# Altium schematic symbol library uz_per_wolfspeed_25kw_FM3.SCHLIB: 30 symbols
Pins are listed as number, name and electrical type; pins without a type are passive.

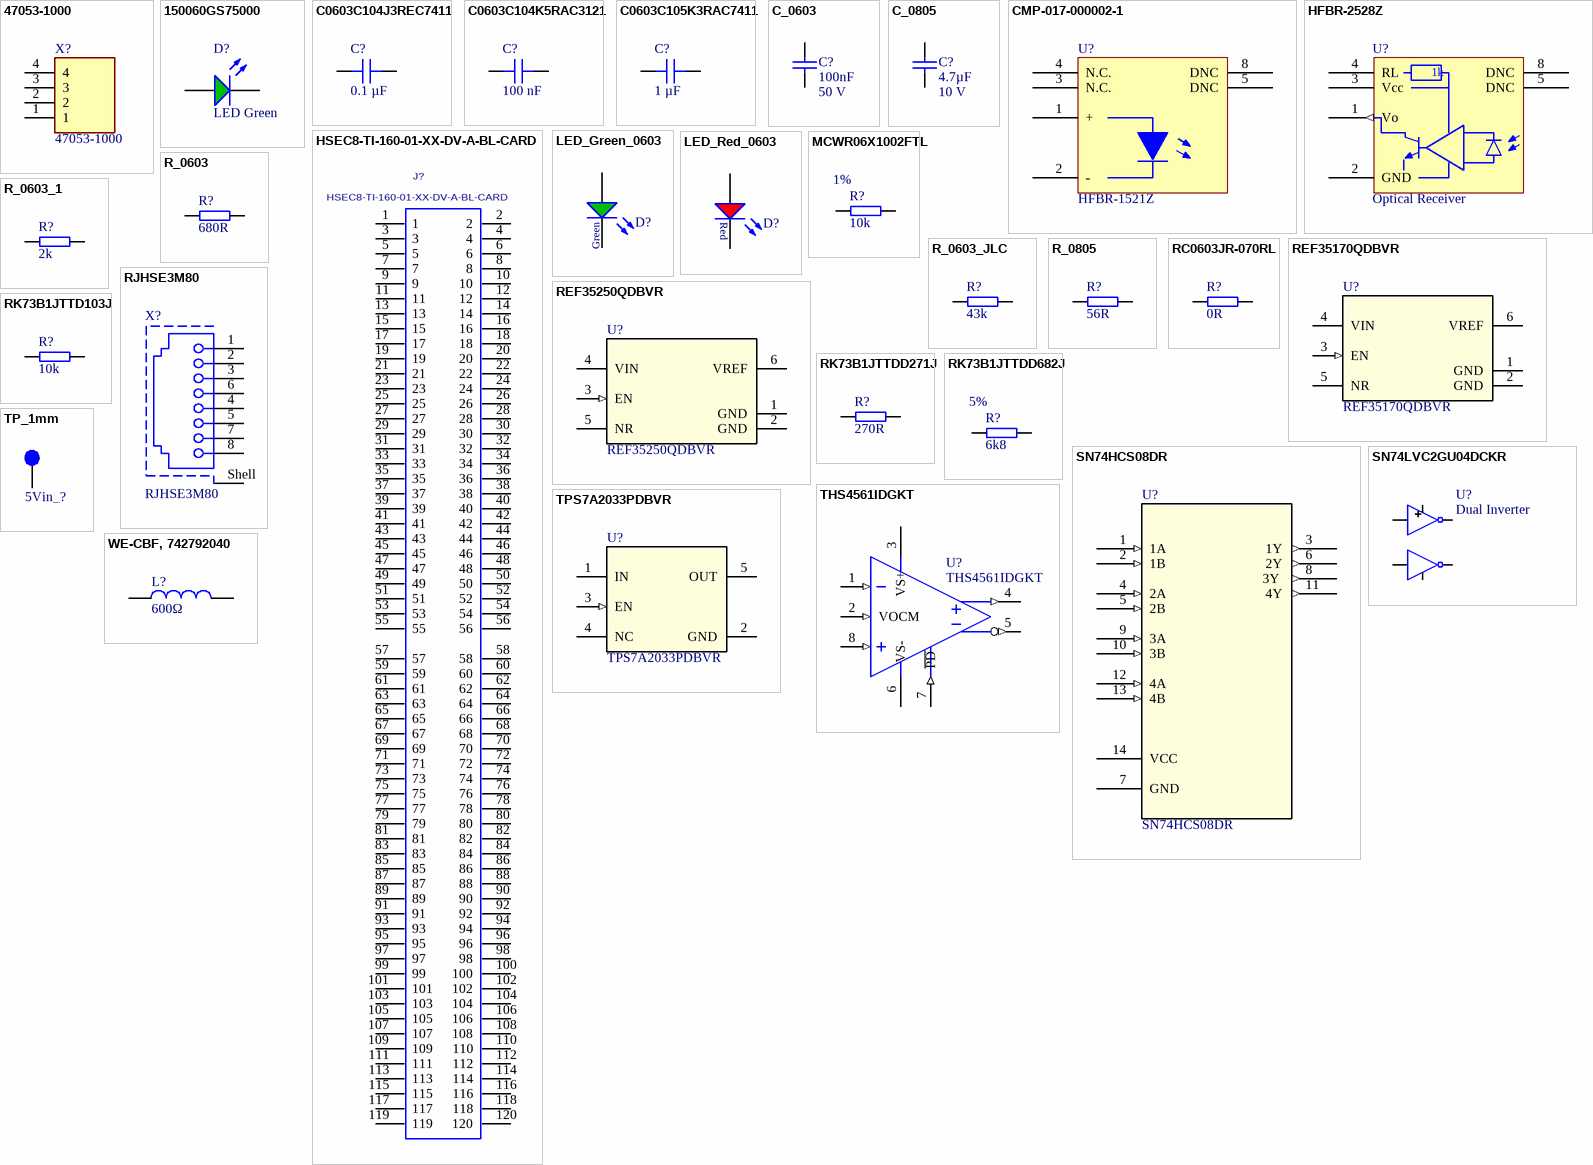
[diagram p0: symbols 47053-1000 to WE-CBF, 742792040]

## 47053-1000
designator X?
Headers & Wire Housings 4P VERT HDR W/FL; Manufacturer_Name: Molex; Created from: VStarost; Number of positions: 4; Datasheet Link: http://www.molex.com/pdm_docs/sd/470531000_sd.pdf; Height: 8mm; Manufacturer_Part_Number: 47053-1000; Mouser Part Number: 538-47053-1000; Mouser Price/Stock: https://www.mouser.co.uk/ProductDetail/Molex/47053-1000?qs=ph4zPCVRuvqoDX7hrEhxNA%3D%3D; Manufacturer Part Number: 47053-1000; PartID: 16; Created On: 27/10/2023 14:20:06; ComponentLink1Description: Datasheet; ComponentLink1URL: https://tools.molex.com/pdm_docs/sd/470531000_sd.pdf; Component Type: Pin Header; Device Package: THT; Last Updated: 04/09/2024 14:33:45; Manufacturer: Molex; Mounting Type: THT; Series: 47053; Supplier 1: Mouser; Supplier Part Number 1: 538-47053-1000; Supplier 2: LCSC; Supplier Part Number 2: C240840; Type: Pin Header; Live Cycle Status: 1; LCSC Part Number: C240840; Stock number: not stored; Number of rows: 1
footprint 470531000
pins: 1, 2, 3, 4

## 150060GS75000
designator D?, comment LED Green
Standard LEDs - SMD WL-SMCW SMDMono TpVw Waterclr 0603 Green; Manufacturer Part Number: 150060GS75000; Manufacturer: Wuerth Elektronik; Created from: AGeiger; Forward Current I_f: 20 mA; Forward Voltage U_f: 3.2 V; Wavelength: 520 nm; Light Intensity: 430 mcd; Nominal Power: 105 mW; PartID: 18; Created On: 08/08/2024 16:40:35; ComponentLink1Description: Datasheet; ComponentLink1URL: https://www.we-online.com/components/products/datasheet/150060GS75000.pdf; Component Type: LED Diode; Device Package: 0603; Last Updated: 08/08/2024 16:41:29; Mounting Type: SMD; Operating Temperature: -40 to +85 °C; Supplier 1: Mouser; Supplier Part Number 1: 710-150060GS75000; Supplier 2: LCSC; Supplier Part Number 2: C72043; Type: Standard; Value: LED Green; Live Cycle Status: 1; Stock number: not stored; Color: green; LCSC Part Number: C72043
footprint WL-SMCW_0603
pins: 1 K, 2 A

## C0603C104J3REC7411
designator C?, comment 0.1 µF
Capacitor 0603, 25 VDC, 0.1 µF, X7R; Manufacturer Part Number: C0603C104J3REC7411; Manufacturer: KEMET; Tolerance: 5 %; Voltage Rating: 25 VDC; Created from: MGremer; PartID: 2; Created On: 20/12/2020 13:54:13; ComponentLink1Description: Datasheet; ComponentLink1URL: https://www.mouser.de/datasheet/2/212/1/KEM_C1090_X7R_ESD-1103328.pdf; Component Type: Capacitor 0603; Device Package: 0603; Last Updated: 20/12/2020 16:43:29; Mounting Type: SMD; Operating Temperature: -55 - 125°C; Series: ESD SMD Auto X7R; Supplier 1: Mouser; Supplier Part Number 1: 80-C0603C104J3RE7411; Type: Capacitor; Value: 0.1 µF; Live Cycle Status: 1; Stock number: Labor SMD Container
footprint C_0603
pins: 1, 2

## C0603C104K5RAC3121
designator C?, comment 100 nF
Capacitor 0603, 50 VDC, 100nF, X7R; Manufacturer Part Number: C0603C104K5RAC3121; Manufacturer: KEMET; Tolerance: 10 %; Voltage Rating: 50 VDC; Created from: DHufnagel; PartID: 99; Created On: 11/08/2022 14:33:29; ComponentLink1Description: Datasheet; ComponentLink1URL: https://www.mouser.de/datasheet/2/212/KEM_C1023_X7R_AUTO_SMD-1093309.pdf; Component Type: Capacitor 0603; Device Package: 0603; Last Updated: 19/08/2022 08:26:58; Mounting Type: SMD; Operating Temperature: -55 - 125°C; Series: X7R; Supplier 1: Mouser; Supplier Part Number 1: 80-C603C104K5RAC3121; Supplier 2: LCSC; Supplier Part Number 2: C696358; Type: Capacitor; Value: 100 nF; Live Cycle Status: 1; LCSC Part Number: C696358; Stock number: not stored
footprint C_0603
pins: 1, 2

## C0603C105K3RAC7411
designator C?, comment 1 µF
Capacitor 0603, 25 VDC, 1 µF, X7R; Manufacturer Part Number: C0603C105K3RAC7411; Manufacturer: KEMET; Tolerance: 10 %; Voltage Rating: 25 VDC; Created from: MGremer; PartID: 4; Created On: 20/12/2020 13:54:13; ComponentLink1Description: Datasheet; ComponentLink1URL: https://www.mouser.de/datasheet/2/212/KEM_C1002_X7R_SMD-1102033.pdf; Component Type: Capacitor 0603; Device Package: 0603; Last Updated: 20/12/2020 16:43:05; Mounting Type: SMD; Operating Temperature: -55 - 125°C; Series: SMD Comm X7R; Supplier 1: Mouser; Supplier Part Number 1: 80-C0603C105K3RLR; Type: Capacitor; Value: 1 µF; Live Cycle Status: 1; Stock number: Labor SMD Container
footprint C_0603
pins: 1, 2

## C_0603
designator C?, comment Rated Voltage: 50 V  (hidden comment: 100nF)
CAP 0603 (1608 Metric) SMD; Tolerance: ±5%; Case-Metric: 1608; Case-EIA: 0603; Max Thickness: 1 mm; Technology: SMT; Created: 2018_09_06_AGeiger; Dielectric: *; Supplier 1: *; Supplier Part Number 1: *; MF: *; MPN: *; Package: 0603; LCSC Part #: C14663; Value: 100nF
footprint C_0603(1608)100_L (Chip Capacitor, Body 1.6x0.8mm, Height 1.0mm, IPC High Density)
pins: 1, 2
1 alternate drawing of the same symbol

## C_0805
designator C?, comment Voltage: 10 V  (hidden comment: 4.7µF)
CAP 0805 (2012 Metric) SMD; MPN: LMF212B7475KGHT; Tolerance: ±10%; Case-Metric: 2012; Dielectric: X7R; MF: Taiyo Yuden; Case-EIA: 0805; Max Thickness: 1 mm; Technology: SMT; Created: 2018_09_06_AGeiger; Supplier 1: Mouser; Supplier Part Number 1: 963-LMF212B7475KGHT; Package: 0805; LCSC Part #: C1779; Value: 4.7µF
footprint CAP_2012X06N (Chip Resistor, 2-Leads, Body 2,00x1,25mm, IPC Medium Density)
pins: 1, 2
1 alternate drawing of the same symbol

## CMP-017-000002-1
designator U?, comment HFBR-1521Z
Fibre Optic Transmitters, Link Horiz 5MBd Tx RoHS; Manufacturer: Broadcom Avago; MF: Broadcom/Avago; Supply Voltage: 5V; Wavelength: 660 nm; Foreward Current: 60 mA; Created: 2019_04_09_Kreppel; Data Rate: 5 MBd; Design Item ID: HFBR-1521Z; MPN: HFBR-1521Z; Source: UZOhm_Optical.SchLib; Manufacturer Part Number: HFBR-1521Z
footprint HFBRx5XX
pins: 1 + "Anode", 2 - "Cathode", 3 N.C. "Not Connected", 4 N.C. "Not Connected", 5 DNC "Do Not Connect", 8 DNC "Do Not Connect"

## HFBR-2528Z
designator U?, comment Optical Receiver
Fibre Optic Receivers, LINK HORIZ 5MBd RC VR RoHS; MPN: HFBR-2521Z; Suppier Part Number 2: 516-2062-ND; MF: Boadcom/Avago; Wavelength: 660 nm; Iout max: 25 mA; Supply Voltage: 5V; Created: 2019_04_09_Kreppel; Data Rate: 5 MBd; Supplier 1: Mouser; Supplier 2: Digi-Key; Supplier Part Number 1: 630-HFBR-2521Z
footprint HFBRx5XX
pins: 1 Vo (out) "Data", 2 GND (power) "Ground", 3 Vcc (power) "Source", 4 RL, 5 DNC "Do Not Connect", 8 DNC "Do Not Connect"
text: 1k

## HSEC8-TI-160-01-XX-DV-A-BL-CARD
designator J?
MATING CARD LAYOUT FOR HSEC8-160-01-XX-DV-A-BL.; MANUFACTURER: SAMTEC; PCB DECAL: HSEC8-160-01-XX-DV-A-BL-CARD; CREATED: April 20, 2018 - Wendy Xin; Design Item ID: HSEC8-160-01-XX-DV-A-BL-CARD; Source: HSEC8-160-01-XX-DV-A-BL-CARD.SCHLIB; Component Type: Standard; Pin Count: 120
footprint HSEC8-TI-160-SAMTEC-Connector
pins: 1, 2, 3, 4, 5, 6, 7, 8, 9, 10, 11, 12, 13, 14, 15, 16, 17, 18, 19, 20, 21, 22, 23, 24, 25, 26, 27, 28, 29, 30, 31, 32, 33, 34, 35, 36, 37, 38, 39, 40, 41, 42, 43, 44, 45, 46, 47, 48, 49, 50, 51, 52, 53, 54, 55, 56, 57, 58, 59, 60, 61, 62, 63, 64, 65, 66, 67, 68, 69, 70, 71, 72, 73, 74, 75, 76, 77, 78, 79, 80, 81, 82, 83, 84, 85, 86, 87, 88, 89, 90, 91, 92, 93, 94, 95, 96, 97, 98, 99, 100, 101, 102, 103, 104, 105, 106, 107, 108, 109, 110, 111, 112, 113, 114, 115, 116, 117, 118, 119, 120

## LED_Green_0603
designator D?, comment 150060GS75000  (value not drawn)
WL-SMCW SMD Mono-color Chip LED Waterclear, size 0603, Green, 3.2 V, 140°; Forward Voltage: 3.2 V; Luminous Intensity: 430 mcd; Peak Wavelength: 515 nm; Dominant Wavelength: 520 nm; MF: Wuerth Elektronik; Published Date: Sep. 2017; ComponentLink1Description: Manufacturer; ComponentLink1URL: http://www.we-online.de; ComponentLink2Description: Datasheet; ComponentLink2URL: http://katalog.we-online.com/led/datasheet/150060GS75000.pdf; MPN: 150060GS75000; Size: 0603; Viewing Angle: 140°; Emitting Color: Green; Value: 150060GS75000; Package: 0603; Created: 2018_09_06_AGeiger; Supplier 1: Farnell; Supplier Part Number 1: 2322070; Supplier 2: Mouser; Supplier Part Number 2: 710-150060GS75000; Supplier 3: Digi-Key; Supplier Part Number 3: 732-4971-1-ND; LCSC Part #: C72043
footprint WL-SMCW_0603
pins: 1 K, 2 A

## LED_Red_0603
designator D?, comment 150060RS75000  (value not drawn)
WL-SMCW SMD Mono-color Chip LED Waterclear, size 0603, Red, 2 V, 140°; Forward Voltage: 2 V; Luminous Intensity: 250 mcd; Peak Wavelength: 630 nm; Dominant Wavelength: 625 nm; MF: Wuerth Elektronik; Published Date: Sep. 2017; ComponentLink1Description: Manufacturer; ComponentLink1URL: http://www.we-online.de; ComponentLink2Description: Datasheet; ComponentLink2URL: http://katalog.we-online.com/led/datasheet/150060RS75000.pdf; MPN: 150060RS75000; Size: 0603; Viewing Angle: 140°; Emitting Color: Red; Value: 150060RS75000; Package: 0603; Created: 2018_09_06_AGeiger; Supplier 1: Farnell; Supplier Part Number 1: 2322071; Supplier 2: Mouser; Supplier Part Number 2: 710-150060RS75000; Supplier 3: Digi-Key; Supplier Part Number 3: 732-4978-1-ND; LCSC Part #: C2286
footprint WL-SMCW_0603
pins: 1 K, 2 A

## MCWR06X1002FTL
designator R?, comment 10k  Tolerance: 1%
SMD resistor 1%; Manufacturer Part Number: MCWR06X1002FTL; Manufacturer: Multicomp PRO; Created from: MGremer; PartID: 176; Created On: 14/12/2020 16:17:14; ComponentLink1Description: Datasheet; ComponentLink1URL: http://www.farnell.com/datasheets/2860681.pdf; Component Type: SMD resistor; Device Package: 0603; Last Updated: 15/02/2023 17:53:17; Mounting Type: SMD; Supplier 1: Farnell; Supplier Part Number 1: 2447230; Type: Resistor; Value: 10k; Live Cycle Status: 1; Stock number: not stored; LCSC Part Number: C269701
footprint RES 0603_1608
footprint RES 0603_1608 NO TO
pins: 1, 2

## R_0603
designator R?, comment 680R
SMD Resistor 0603; MPN: CR0603-FX-3901ELF; Tolerance: 1%; Voltage: 75V; Power: 100 mW; MF: Bourns; Package: 0603; Value: 680R; Created: 2018_09_06_AGeiger; Supplier 1: Mouser; Supplier Part Number 1: 652-CR0603-FX3901ELF; LCSC Part #: C23228
footprint R_0603_N (SMD Resistor, Body 1.6x0.8mm, IPC Medium Density)
pins: 1, 2

## R_0603_1
designator R?, comment 2k
SMD Resistor 0603; MPN: RC0603FR-072KL; Tolerance: 1%; Voltage: 75 V; Power: 100 mW; MF: Yageo; Package: 0603; Value: 2k; Created: 2018_09_06_AGeiger; Supplier 1: Mouser; Supplier Part Number 1: 603-RC0603FR-072KL; LCSC Part #: C22975
footprint R_0603_N (SMD Resistor, Body 1.6x0.8mm, IPC Medium Density)
pins: 1, 2

## R_0603_JLC
designator R?, comment 43k
SMD Resistor 0603; Tolerance: 1%; Voltage: 50V; Power: 100 mW; Package: 0603; Value: 43k; Created: 2018_09_06_AGeiger; Supplier 1: *; Supplier Part Number 1: *; LCSC Part #: C23172
footprint R_0603_N (SMD Resistor, Body 1.6x0.8mm, IPC Medium Density)
pins: 1, 2

## R_0805
designator R?, comment 56R
SMD Resistor 0805; MPN: CR0805-FX-1200ELF; Case_EIA: 0805; MF: Bourns; Voltage: 150 V; Power: 125 mW; Tolerance: 1%; Value: 56R; Supplier 1: Mouser; Supplier Part Number 1: 652-CR0805FX-1200ELF*; LCSC Part #: C17437
footprint RES_2012X06N (Chip Resistor, 2-Leads, Body 2,00x1,25mm, IPC Medium Density)
pins: 1, 2

## RC0603JR-070RL
designator R?, comment 0R
SMD resistor E24 series; Manufacturer Part Number: RC0603JR-070RL; Manufacturer: YAGEO; Tolerance: 5%; Created from: MGremer; PartID: 1; Created On: 14/12/2020 16:17:14; ComponentLink1Description: Datasheet; ComponentLink1URL: https://www.mouser.de/datasheet/2/447/PYu-RC_Group_51_RoHS_L_10-1664068.pdf; Component Type: SMD resistor; Device Package: 0603; Last Updated: 04/03/2021 09:09:42; Mounting Type: SMD; Supplier 1: Mouser; Supplier Part Number 1: 603-RC0603JR-070RL; Supplier 2: LCSC; Supplier Part Number 2: C21189; Type: Resistor; Value: 0R; Live Cycle Status: 1; Stock number: Labor SMD Container; LCSC Part Number: C21189
footprint RES 0603_1608
footprint RES 0603_1608 NO TO
pins: 1, 2

## REF35170QDBVR
designator U?
No Description Available; Mfr_Name: Texas Instruments; TYPE: TYPE; RefDes: RefDes
footprint DBV0006A-IPC_A
pins: 1 GND (power), 2 GND (power), 3 EN (in), 4 VIN (power), 5 NR, 6 VREF

## REF35250QDBVR
designator U?
No Description Available; Mfr_Name: Texas Instruments; TYPE: TYPE; RefDes: RefDes
footprint DBV0006A-IPC_A
pins: 1 GND (power), 2 GND (power), 3 EN (in), 4 VIN (power), 5 NR, 6 VREF

## RJHSE3M80
designator X?
CAT5, RJ45 Connector, 1 port, vertical; Manufacturer: Amphenol; Created from: DHufnagel; Manufacturer Part Number: RJHSE3M80; PartID: 12; Created On: 06/06/2023 05:55:53; ComponentLink1Description: Datasheet; ComponentLink1URL: https://cdn.amphenol-cs.com/media/wysiwyg/files/documentation/datasheet/inputoutput/io-modjack-rjhse.pdf; Component Type: RJ45 Connector; Device Package: RJ45; Last Updated: 06/06/2023 05:55:53; Mounting Type: THT; Series: RJHSE; Supplier 1: Mouser; Supplier Part Number 1: 523-RJHSE3M80; Supplier 2: LCSC; Supplier Part Number 2: C3179193; Type: RJ45 Connector; Live Cycle Status: 1; LCSC Part Number: C3179193; Stock number: not stored
footprint RJHSE3M80
pins: 1, 2, 3, 4, 5, 6, 7, 8, Shell

## RK73B1JTTD103J
designator R?, comment 10k
SMD resistor E24 series; Manufacturer Part Number: RK73B1JTTD103J; Manufacturer: KOA Speer; Tolerance: 5%; Created from: MGremer; PartID: 98; Created On: 14/12/2020 16:17:14; ComponentLink1Description: Datasheet; ComponentLink1URL: https://www.mouser.de/datasheet/2/219/RK73B-1825463.pdf; Component Type: SMD resistor; Device Package: 0603; Last Updated: 27/05/2022 14:04:22; Mounting Type: SMD; Supplier 1: Mouser; Supplier Part Number 1: 660-RK73B1JTTD103J; Type: Resistor; Value: 10k; Live Cycle Status: 1; Stock number: Labor SMD Container; LCSC Part Number: C25804
footprint RES 0603_1608
footprint RES 0603_1608 NO TO
pins: 1, 2

## RK73B1JTTDD271J
designator R?, comment 270R
SMD resistor E24 series; Manufacturer Part Number: RK73B1JTTDD271J; Manufacturer: KOA Speer; Tolerance: 5%; Created from: MGremer; PartID: 60; Created On: 14/12/2020 16:17:14; ComponentLink1Description: Datasheet; ComponentLink1URL: https://www.mouser.de/datasheet/2/219/RK73B-1825463.pdf; Component Type: SMD resistor; Device Package: 0603; Last Updated: 15/02/2023 17:43:45; Mounting Type: SMD; Supplier 1: Mouser; Supplier Part Number 1: 660-RK73B1JTTDD271J; Type: Resistor; Value: 270R; Live Cycle Status: 1; Stock number: Labor SMD Container; LCSC Part Number: C177305
footprint RES 0603_1608
footprint RES 0603_1608 NO TO
pins: 1, 2

## RK73B1JTTDD682J
designator R?, comment 6k8  Tolerance: 5%
SMD resistor E24 series; Manufacturer Part Number: RK73B1JTTDD682J; Manufacturer: KOA Speer; Created from: MGremer; PartID: 94; Created On: 14/12/2020 16:17:14; ComponentLink1Description: Datasheet; ComponentLink1URL: https://www.mouser.de/datasheet/2/219/RK73B-1825463.pdf; Component Type: SMD resistor; Device Package: 0603; Last Updated: 21/02/2024 16:18:01; Mounting Type: SMD; Supplier 1: Mouser; Supplier Part Number 1: 660-RK73B1JTTDD682J; Type: Resistor; Value: 6k8; Live Cycle Status: 1; Stock number: Labor SMD Container; LCSC Part Number: C118365
footprint RES 0603_1608
footprint RES 0603_1608 NO TO
pins: 1, 2

## SN74HCS08DR
designator U?
No Description Available; Mfr_Name: Texas Instruments; RefDes: RefDes; Type: Type
footprint SOIC_S08DR_TEX
pins: 1 1A (in), 2 1B (in), 3 1Y (out), 4 2A (in), 5 2B (in), 6 2Y (out), 7 GND (power), 8 3Y  (out), 9 3A (in), 10 3B (in), 11 4Y (out), 12 4A (in), 13 4B (in), 14 VCC (power)

## SN74LVC2GU04DCKR
designator U?, comment Dual Inverter
This dual inverter is designed for 1.65-V to 5.5-V VCC / operation.; LCSC Part #: C116660; JLCSMT Rotation: 180
footprint SN74LVC2GU04DCKR (TSOP, 6-Leads, Body 2,00x1,25mm, Pitch 0,65mm, IPC Medium Density)
pins: 1 IN1, 2 GND, 3 IN2, 4 OUT2, 5 VCC, 6 OUT2

## THS4561IDGKT
designator U?
Fully Differential Amplifier, Low-Power, High Supply Range, 60-MHz; Manufacturer: Texas Instruments; Channels: 1; GBP: 68 MHz; CMRR: 110 dB; Value: Rail-to-Rail; Created from: DHufnagel; Manufacturer Part Number: THS4561IDGKT; PartID: 13; Created On: 08/07/2022 14:29:07; ComponentLink1Description: Datasheet; ComponentLink1URL: https://www.ti.com/general/docs/suppproductinfo.tsp?distId=26&gotoUrl=https://www.ti.com/lit/gpn/ths4561; Component Type: Differential Amplifier; Device Package: VSSOP-8; Last Updated: 30/09/2024 15:54:43; Mounting Type: SMD; Operating Temperature: -40 to +125 °C; Series: THS4561; Supplier 1: Mouser; Supplier Part Number 1: 595-THS4561IDGKT; Supplier 2: Digi-Key; Supplier Part Number 2: 296-THS4561IDGKTCT-ND; Type: Differential Amplifiers; Live Cycle Status: 1; Stock number: not stored
footprint SOP65P490X110-8N
pins: 1 VIN- (in) "Noninverting amplifier input", 2 VOCM (in) "Common-mode voltage input", 3 VS+ (power) "Amplifier positive power-supply input", 4 VOUT+ (out) "Noninverting amplifier output", 5 VOUT- (out) "Inverting amplifier output", 6 VS- (power) "Amplifier negative power-supply input. Note that VS- is tied together on multi-channel devices.", 7 ~{PD} (in) "Power Down pin. PIN = logic high for normal operation. Logic low for disable", 8 VIN+ (in) "Inverting amplifier input"

## TP_1mm
designator 5Vin_?, comment Testpoint 1mm  (value not drawn)  (no BOM)
Created: 2018_06_25_AGeiger; Value: Testpoint 1mm
footprint TP_1mm
pins: 1

## TPS7A2033PDBVR
designator U?
No Description Available; Mfr_Name: Texas Instruments; TYPE: TYPE; RefDes: RefDes
footprint DBV0005A-IPC_A
pins: 1 IN (power), 2 GND (power), 3 EN (in), 4 NC, 5 OUT

## WE-CBF, 742792040
designator L?, comment 600Ω
WE-CBF SMD EMI Suppression Ferrite Bead, 0805, 600Ω; MPN: 742792040; MF: Wurth Elektronik; Type: High Current; PublishedDate: Aug 2016; ComponentLink1Description: Manufacturer; ComponentLink1URL: http://www.we-online.de; ComponentLink2Description: Datasheet; ComponentLink2URL: http://katalog.we-online.de/pbs/datasheet/742792040.pdf; Value: 600Ω; Package: 0805; Supplier 1: Farnell; Supplier 2: Mouser; Supplier 3: Digi-Key; Supplier Part Number 1: 2761567; Supplier Part Number 2: 710-742792040; Supplier Part Number 3: 732-1620-1-ND
footprint WE-CBF_0805_High Current (SMD EMI Suppression Ferrite  Bead, body 2.0mmx1.2mm)
pins: 1, 2